# EAGLE library part 25AA02E48T-I/OT (library HEXABITZ_ICs)
25AA02E48 Series 2 Kbit (256 x 8) 5.5 V SMT SPI Bus Serial EEPROM - SOT-23-6
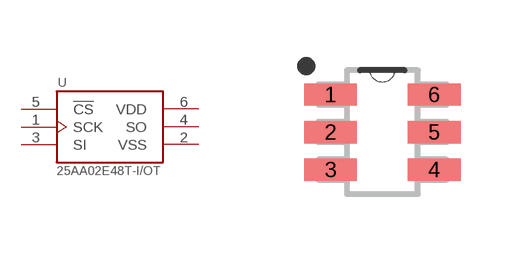
[diagram p34: symbol with the pads of SOT95P270X145-6N; footprint SOT95P270X145-6N]

Designator prefix U

## 25AA02E48T-I/OT (AVAILABILITY: Unavailable; DESCRIPTION: EEPROM Memory IC 2Kb _256 x 8_ SPI 10MHz SOT-23-6; MFN: Microchip; MPN: 25AA02E48T-I/OT; OCTOPART_URL: https://octopart.com/25aa02e48t-i%2Fot-microchip-9565806?r=sp; PACKAGE: SOT-23-6 Microchip)  [SOT95P270X145-6N]
1  SCK  in
2  VSS  pwr
3  SI  in
4  SO  out
5  !CS  in
6  VDD  pwr

## Footprint SOT95P270X145-6N (pad centres in mm)
smd 1.321 x 0.559: 1 -1.295,0.94; 2 -1.295,0; 3 -1.295,-0.94; 4 1.295,-0.94; 5 1.295,0; 6 1.295,0.94